# EAGLE library part ROSA-1 (library QuantumOptics)
ROSA, Reciever Optical Sub-Assembly (AKA "OE"). e.g. Advanced Optical Components HFD6x80-413 <http://www.adopco.com/product/documents/HFD6x80-413.pdf>
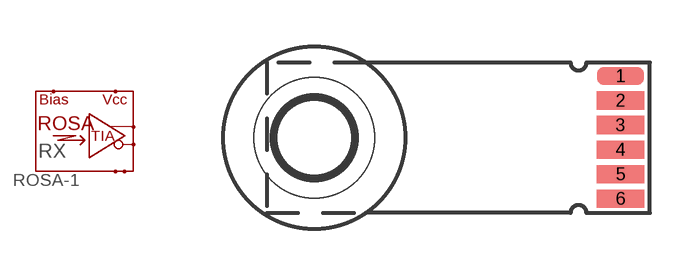
[diagram p61: symbol with the pads of ROSA-1; footprint ROSA-1]

Designator prefix RX

## ROSA-1  [ROSA-1]
1  VCC
2  COM1
3  Q+  out
4  Q-  out
5  COM2
6  BIAS

## Footprint ROSA-1 (pad centres in mm)
ROSA, Reciever Optical Sub-Assembly (AKA "OE"). Advanced Optical Components HFD6x80-413 <http://www.adopco.com/product/documents/HFD6x80-413.pdf>
smd 1.524 x 0.584: 1 -0.968,2.362; 2 -0.968,1.575; 3 -0.968,0.787; 4 -0.968,0; 5 -0.968,-0.787; 6 -0.968,-1.575
hole 3.861 at -10.795,0.381